# Altium footprint library PcbLib Switch.PcbLib: 14 footprints
Each footprint in its own frame and in the unit in brackets; x right, y up, seen from the top. Pads: shape width x height; smd on the part's side, far side on the other; paste and mask are expansions set on the pad; w line width, h text height; cw(c..) or ccw(c..) is an arc to the next point about the centre after c.
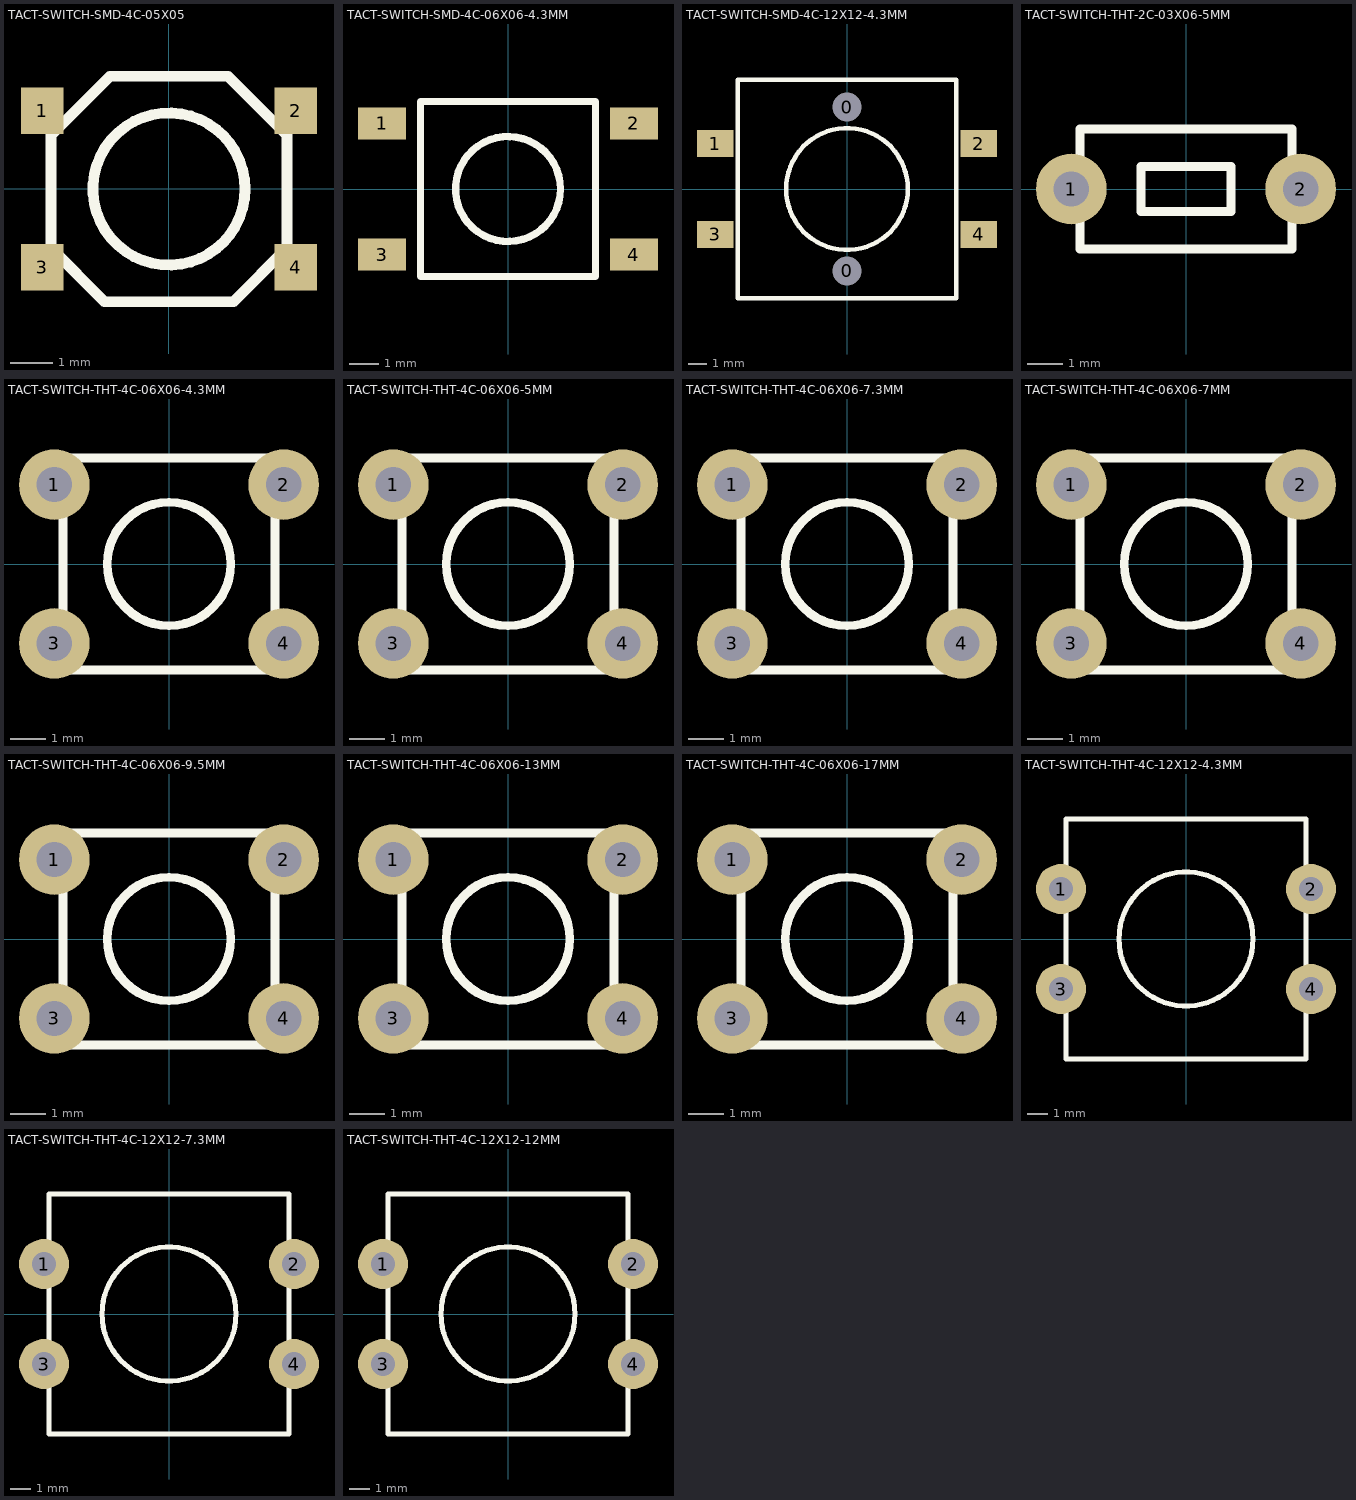
[diagram p0: the footprints below, top view; thin cyan lines are the x and y axes]

## TACT-SWITCH-SMD-4C-05X05 [mm] "TACT-SWITCH-SMD-4C-05X05"
pads (4):
  rect 1x1.1 smd: 1(-3,1.85) 2(3,1.85) 3(-3,-1.85) 4(3,-1.85)
Top Overlay:
  circle w0.254: c0,0 r1.8
  lines w0.254: -2.794,-1.397 -1.524,-2.667 1.524,-2.667 2.794,-1.397 2.794,1.27 1.397,2.667 -1.397,2.667 -2.794,1.27 -2.794,-1.397
3D body "TACT-SWITCH-SMD-4C-05X05.stp": height 1.5, standoff 0, extent -3.225,-2.56 3.225,2.54

## TACT-SWITCH-SMD-4C-06X06-4.3MM [mm] "TACT-SWITCH-SMD-4C-06X06-4.3MM"
pads (4):
  rect 1.65x1.1 smd: 1(-4.32,2.25) 2(4.32,2.25) 3(-4.32,-2.25) 4(4.32,-2.25)
Top Overlay:
  circle w0.254: c0,0 r1.8
  lines w0.254: -3,-3 -3,3 3,3 3,-3 -3,-3
3D body "TACT-SWITCH-SMD-4C-06X06-4.3MM.stp": height 4.3, standoff 0, extent -4.6,-3 4.6,3

## TACT-SWITCH-SMD-4C-12X12-4.3MM [mm] "TACT-SWITCH-SMD-4C-12X12-4.3MM"
pads (6):
  round 1.524 hole 1.6: 0(0,-4.5) 0(0,4.5)
  rect 2x1.5 smd: 1(-7.25,2.5) 2(7.25,2.5) 3(-7.25,-2.5) 4(7.25,-2.5)
Top Overlay:
  circle w0.254: c0,0 r3.35
  lines w0.254: -6,-6 6,-6 6,6 -6,6 -6,-6
3D body "TACT-SWITCH-SMD-4C-12X12-4.3MM.stp": height 4.3, standoff -1.5, extent -7.65,-6 7.65,6

## TACT-SWITCH-THT-2C-03X06-5MM [mm] "TACT-SWITCH-THT-2C-03X06-5MM"
pads (2):
  round 2 hole 1: 1(-3.25,0) 2(3.25,0)
Top Overlay:
  lines w0.254: -3,-1.7 3,-1.7 3,1.7 -3,1.7 -3,-1.7 ; -1.27,-0.635 1.27,-0.635 1.27,0.635 -1.27,0.635 -1.27,-0.635
3D body "TACT-SWITCH-THT-2C-03X06-5MM.stp": height 5, standoff -3.9, extent -3.839,-1.75 3.839,1.75

## TACT-SWITCH-THT-4C-06X06-4.3MM [mm] "TACT-SWITCH-THT-4C-06X06-4.3MM"
pads (4):
  round 2 hole 1: 1(-3.25,2.25) 2(3.25,2.25) 3(-3.25,-2.25) 4(3.25,-2.25)
Top Overlay:
  circle w0.254: c0,0 r1.75
  lines w0.254: -3,-3 -3,3 3,3 3,-3 -3,-3
3D body "TACT-SWITCH-THT-4C-06X06-4.3MM.stp": height 4.3, standoff -3.5, extent -3.939,-3 3.939,3

## TACT-SWITCH-THT-4C-06X06-5MM [mm] "TACT-SWITCH-THT-4C-06X06-5MM"
pads (4):
  round 2 hole 1: 1(-3.25,2.25) 2(3.25,2.25) 3(-3.25,-2.25) 4(3.25,-2.25)
Top Overlay:
  circle w0.254: c0,0 r1.75
  lines w0.254: -3,-3 3,-3 3,3 -3,3 -3,-3
3D body "TACT-SWITCH-THT-4C-06X06-5MM.stp": height 5, standoff -3.5, extent -3.939,-3 3.939,3

## TACT-SWITCH-THT-4C-06X06-7.3MM [mm] "TACT-SWITCH-THT-4C-06X06-7."
pads (4):
  round 2 hole 1: 1(-3.25,2.25) 2(3.25,2.25) 3(-3.25,-2.25) 4(3.25,-2.25)
Top Overlay:
  circle w0.254: c0,0 r1.75
  lines w0.254: -3,-3 3,-3 3,3 -3,3 -3,-3
3D body "TACT-SWITCH-THT-4C-06X06-7.3MM.stp": height 7.3, standoff -3.5, extent -3.939,-3 3.939,3

## TACT-SWITCH-THT-4C-06X06-7MM [mm] "TACT-SWITCH-THT-4C-06X06-7MM"
pads (4):
  round 2 hole 1: 1(-3.25,2.25) 2(3.25,2.25) 3(-3.25,-2.25) 4(3.25,-2.25)
Top Overlay:
  circle w0.254: c0,0 r1.75
  lines w0.254: -3,-3 -3,3 3,3 3,-3 -3,-3
3D body "TACT-SWITCH-THT-4C-06X06-7MM.stp": height 7, standoff -3.5, extent -3.939,-3 3.939,3

## TACT-SWITCH-THT-4C-06X06-9.5MM [mm] "TACT-SWITCH-THT-4C-06X06-9.5MM"
pads (4):
  round 2 hole 1: 1(-3.25,2.25) 2(3.25,2.25) 3(-3.25,-2.25) 4(3.25,-2.25)
Top Overlay:
  circle w0.254: c0,0 r1.75
  lines w0.254: -3,-3 3,-3 3,3 -3,3 -3,-3
3D body "TACT-SWITCH-THT-4C-06X06-9.5MM.stp": height 9.5, standoff -3.5, extent -3.939,-3 3.939,3

## TACT-SWITCH-THT-4C-06X06-13MM [mm] "TACT-SWITCH-THT-4C-06X06-13MM"
pads (4):
  round 2 hole 1: 1(-3.25,2.25) 2(3.25,2.25) 3(-3.25,-2.25) 4(3.25,-2.25)
Top Overlay:
  circle w0.254: c0,0 r1.75
  lines w0.254: -3,-3 -3,3 3,3 3,-3 -3,-3
3D body "TACT-SWITCH-THT-4C-06X06-13MM.stp": height 13, standoff -3.5, extent -3.939,-3 3.939,3

## TACT-SWITCH-THT-4C-06X06-17MM [mm] "TACT-SWITCH-THT-4C-06X06-17MM"
pads (4):
  round 2 hole 1: 1(-3.25,2.25) 2(3.25,2.25) 3(-3.25,-2.25) 4(3.25,-2.25)
Top Overlay:
  circle w0.254: c0,0 r1.75
  lines w0.254: -3,-3 3,-3 3,3 -3,3 -3,-3
3D body "TACT-SWITCH-THT-4C-06X06-17MM.stp": height 17, standoff -3.5, extent -3.939,-3 3.939,3

## TACT-SWITCH-THT-4C-12X12-4.3MM [mm] "TACT-SWITCH-THT-4C-12X12-4.3MM"
pads (4):
  round 2.5 hole 1.2: 1(-6.25,2.5) 2(6.25,2.5) 3(-6.25,-2.5) 4(6.25,-2.5)
Top Overlay:
  circle w0.254: c0,0 r3.35
  lines w0.254: -6,-6 -6,6 6,6 6,-6 -6,-6
3D body "TACT-SWITCH-THT-4C-12X12-4.3MM.stp": height 4.3, standoff -3.5, extent -7.013,-6 7.012,6

## TACT-SWITCH-THT-4C-12X12-7.3MM [mm] "TACT-SWITCH-THT-4C-12X12-7.3MM"
pads (4):
  round 2.5 hole 1.2: 1(-6.25,2.5) 2(6.25,2.5) 3(-6.25,-2.5) 4(6.25,-2.5)
Top Overlay:
  circle w0.254: c0,0 r3.35
  lines w0.254: -6,-6 -6,6 6,6 6,-6 -6,-6
3D body "TACT-SWITCH-THT-4C-12X12-7.3MM.stp": height 7.3, standoff -3.5, extent -7.013,-6 7.012,6

## TACT-SWITCH-THT-4C-12X12-12MM [mm] "TACT-SWITCH-THT-4C-12X12-12MM"
pads (4):
  round 2.5 hole 1.2: 1(-6.25,2.5) 2(6.25,2.5) 3(-6.25,-2.5) 4(6.25,-2.5)
Top Overlay:
  circle w0.254: c0,0 r3.35
  lines w0.254: -6,-6 -6,6 6,6 6,-6 -6,-6
3D body "TACT-SWITCH-THT-4C-12X12-12MM.stp": height 12, standoff -3.5, extent -7.013,-6 7.013,6